# EAGLE library part MEM2051-00-195-00-A_REVD1 (library MEM2051-00-195-00-A_REVD1)
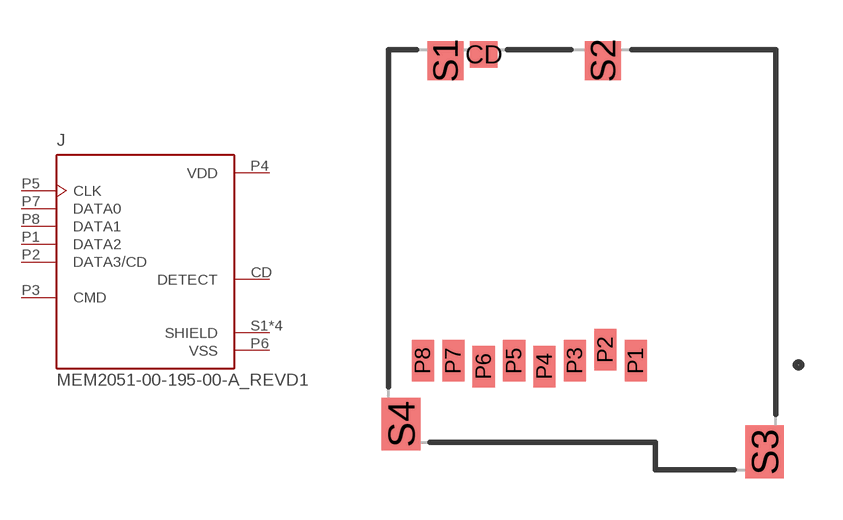
[diagram p0: symbol with the pads of GCT_MEM2051-00-195-00-A_REVD1; footprint GCT_MEM2051-00-195-00-A_REVD1]

Designator prefix J

## MEM2051-00-195-00-A_REVD1MEM2051-00-195-00-A_GCT_MEM2051-00-195-00-A (MANUFACTURER: GCT; MAXIMUM_PACKAGE_HEIGHT: 2.05 mm; PARTREV: D1; SNAPEDA_PN: MEM2051-00-195-00-A; STANDARD: Manufacturer Recommendations)  [GCT_MEM2051-00-195-00-A_REVD1]
CD  DETECT  pas
P1  DATA2
P2  DATA3/CD
P3  CMD
P4  VDD  pwr
P5  CLK  in
P6  VSS  pwr
P7  DATA0
P8  DATA1
S1  SHIELD  pas
S2  SHIELD  pas
S3  SHIELD  pas
S4  SHIELD  pas

## Footprint GCT_MEM2051-00-195-00-A_REVD1 (pad centres in mm)
smd 1 x 0.95: CD -3.56,7.425
smd 0.8 x 1.5: P1 1.94,-3.66; P2 0.84,-3.26; P3 -0.26,-3.66; P4 -1.36,-3.86; P5 -2.46,-3.66; P6 -3.56,-3.86; P7 -4.66,-3.66; P8 -5.76,-3.66
smd 1.3 x 1.4: S1 -4.95,7.2; S2 0.75,7.2
smd 1.4 x 1.9: S3 6.6,-6.95; S4 -6.55,-5.95